# EAGLE library part SAMD20E (library samd20)
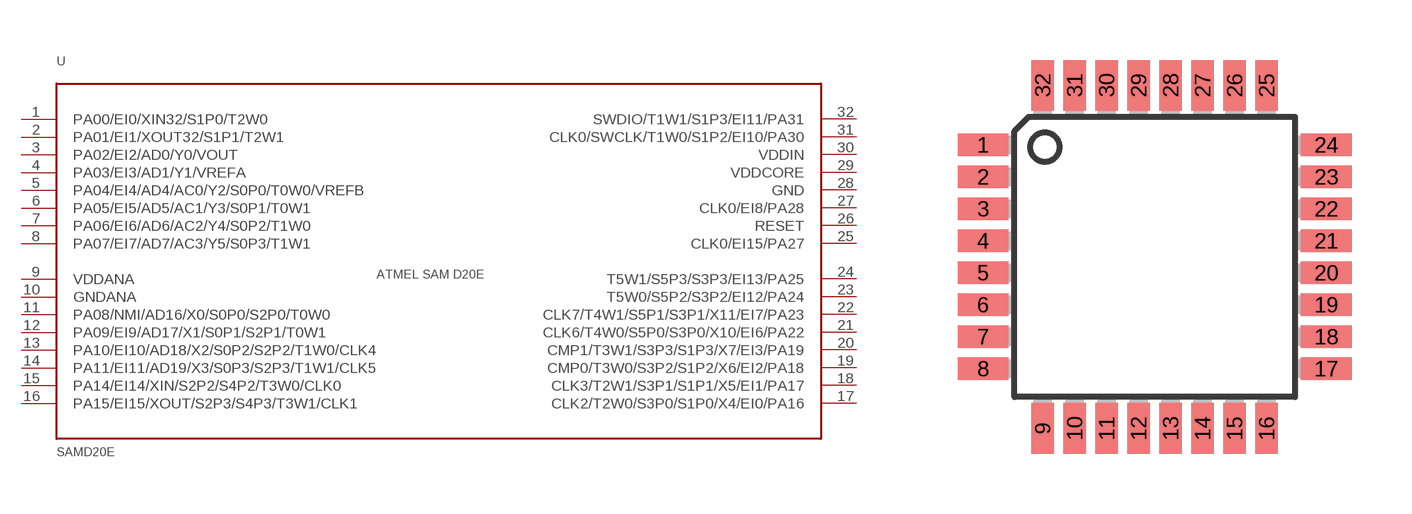
[diagram p0: symbol with the pads of TQFP32-08; footprint TQFP32-08]

Designator prefix -

## SAMD20E  [TQFP32-08]
1  PA00/EI0/XIN32/S1P0/T2W0
2  PA01/EI1/XOUT32/S1P1/T2W1
3  PA02/EI2/AD0/Y0/VOUT
4  PA03/EI3/AD1/Y1/VREFA
5  PA04/EI4/AD4/AC0/Y2/S0P0/T0W0/VREFB
6  PA05/EI5/AD5/AC1/Y3/S0P1/T0W1
7  PA06/EI6/AD6/AC2/Y4/S0P2/T1W0
8  PA07/EI7/AD7/AC3/Y5/S0P3/T1W1
9  VDDANA
10  GNDANA
11  PA08/NMI/AD16/X0/S0P0/S2P0/T0W0
12  PA09/EI9/AD17/X1/S0P1/S2P1/T0W1
13  PA10/EI10/AD18/X2/S0P2/S2P2/T1W0/CLK4
14  PA11/EI11/AD19/X3/S0P3/S2P3/T1W1/CLK5
15  PA14/EI14/XIN/S2P2/S4P2/T3W0/CLK0
16  PA15/EI15/XOUT/S2P3/S4P3/T3W1/CLK1
17  CLK2/T2W0/S3P0/S1P0/X4/EI0/PA16
18  CLK3/T2W1/S3P1/S1P1/X5/EI1/PA17
19  CMP0/T3W0/S3P2/S1P2/X6/EI2/PA18
20  CMP1/T3W1/S3P3/S1P3/X7/EI3/PA19
21  CLK6/T4W0/S5P0/S3P0/X10/EI6/PA22
22  CLK7/T4W1/S5P1/S3P1/X11/EI7/PA23
23  T5W0/S5P2/S3P2/EI12/PA24
24  T5W1/S5P3/S3P3/EI13/PA25
25  CLK0/EI15/PA27
26  RESET
27  CLK0/EI8/PA28
28  GND
29  VDDCORE
30  VDDIN
31  CLK0/SWCLK/T1W0/S1P2/EI10/PA30
32  SWDIO/T1W1/S1P3/EI11/PA31

## Footprint TQFP32-08 (pad centres in mm)
Thin Plasic Quad Flat Package Grid 0.8 mm
smd 1.27 x 0.559: 1 -4.293,2.8; 2 -4.293,2; 3 -4.293,1.2; 4 -4.293,0.4; 5 -4.293,-0.4; 6 -4.293,-1.2; 7 -4.293,-2; 8 -4.293,-2.8; 17 4.293,-2.8; 18 4.293,-2; 19 4.293,-1.2; 20 4.293,-0.4; 21 4.293,0.4; 22 4.293,1.2; 23 4.293,2; 24 4.293,2.8
smd 0.559 x 1.27: 9 -2.8,-4.293; 10 -2,-4.293; 11 -1.2,-4.293; 12 -0.4,-4.293; 13 0.4,-4.293; 14 1.2,-4.293; 15 2,-4.293; 16 2.8,-4.293; 25 2.8,4.293; 26 2,4.293; 27 1.2,4.293; 28 0.4,4.293; 29 -0.4,4.293; 30 -1.2,4.293; 31 -2,4.293; 32 -2.8,4.293